# Altium schematic symbol library sharing.SchLib: 20 symbols
Pins are listed as number, name and electrical type; pins without a type are passive.

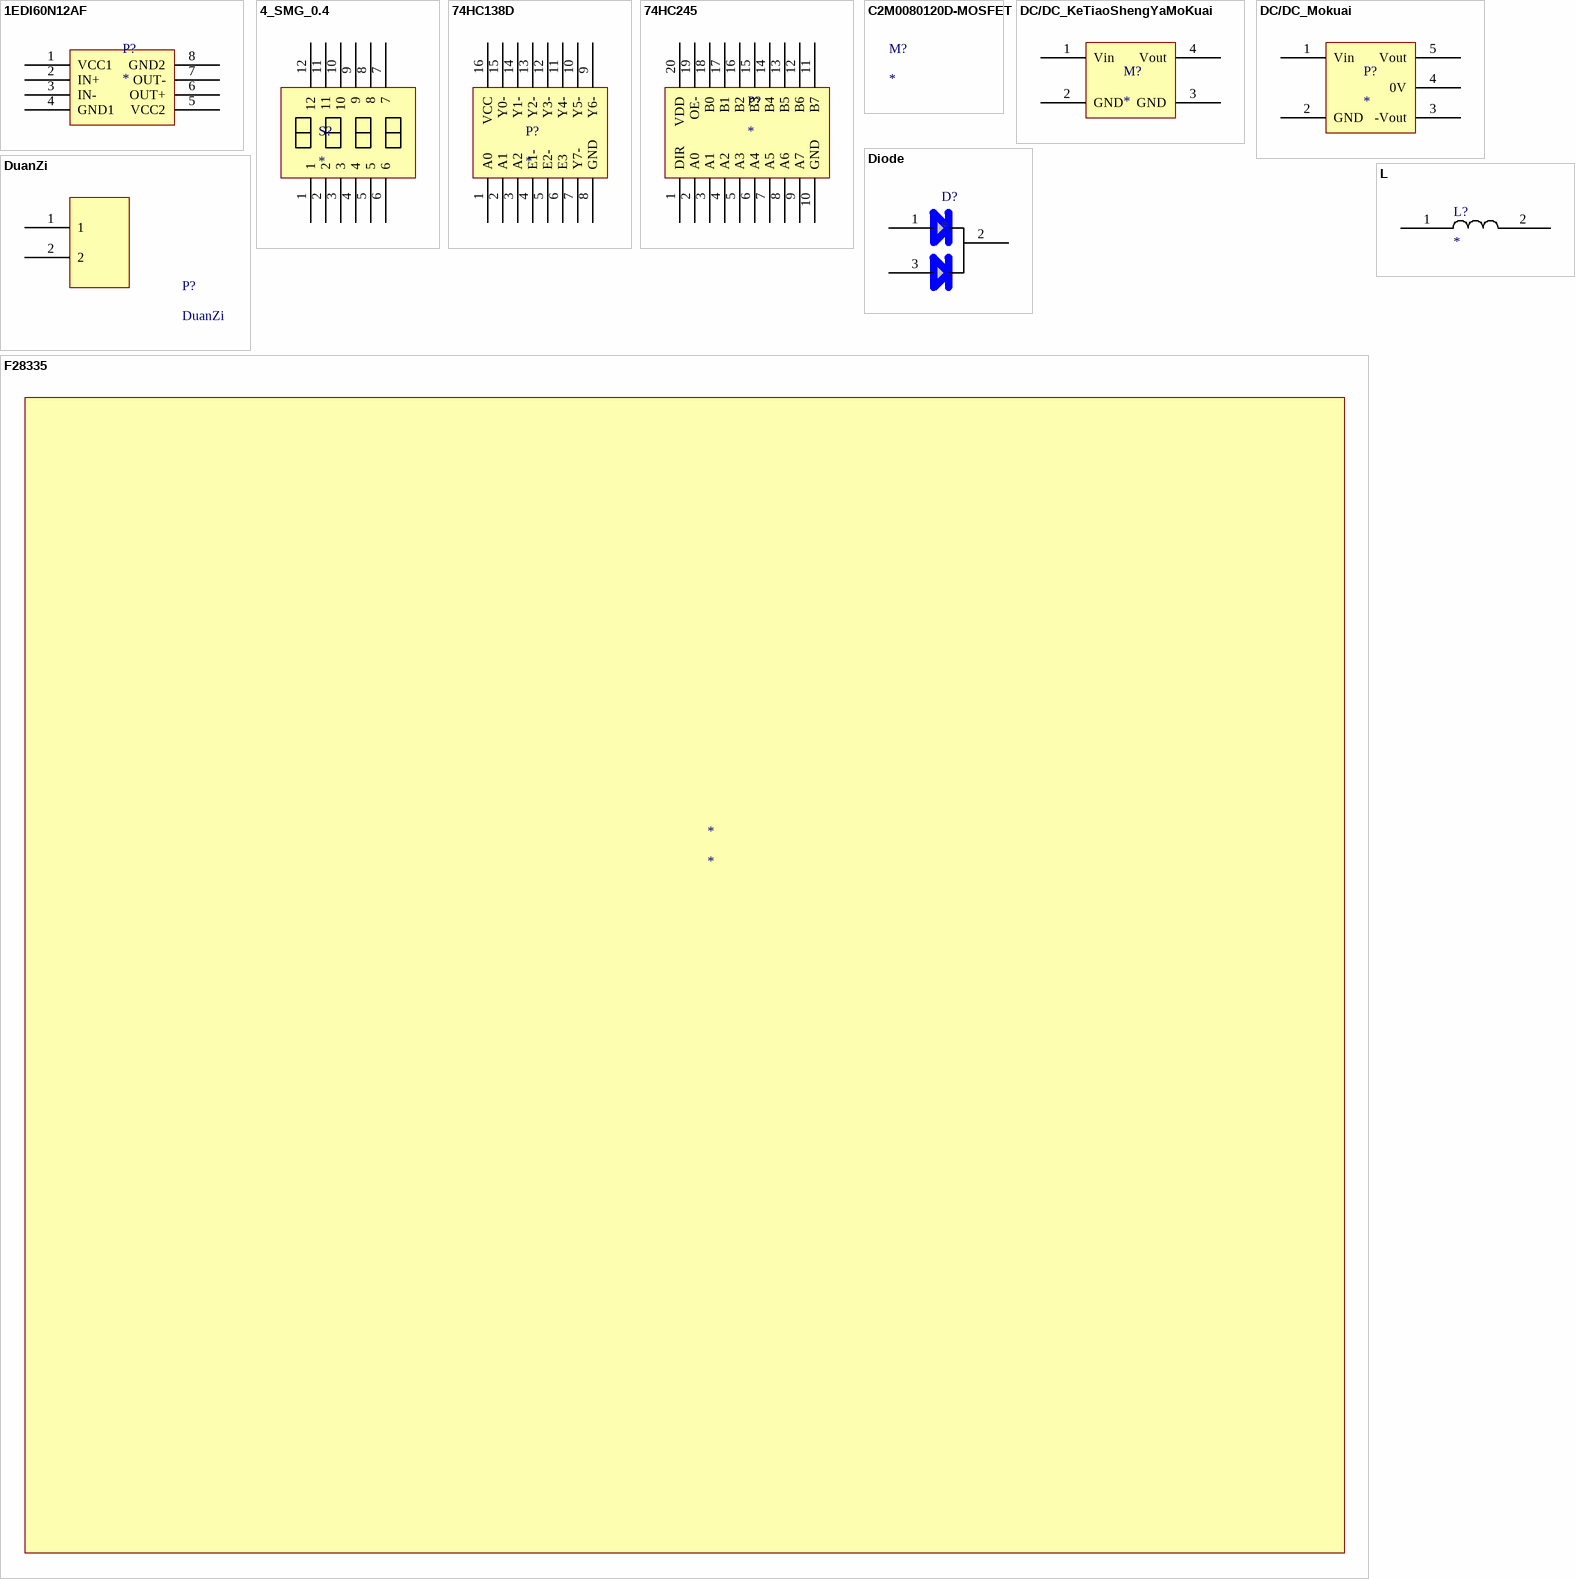
[diagram p0: symbols 1EDI60N12AF to L]

## 1EDI60N12AF
designator P?
footprint sop-8
pins: 1 VCC1, 2 IN+, 3 IN-, 4 GND1, 5 VCC2, 6 OUT+, 7 OUT-, 8 GND2

## 4_SMG_0.4
designator S?
footprint 4_SMG_0.4
pins: 1, 2, 3, 4, 5, 6, 7, 8, 9, 10, 11, 12

## 74HC138D
designator P?
footprint 74HC138
pins: 1 A0, 2 A1, 3 A2, 4 E1-, 5 E2-, 6 E3, 7 Y7-, 8 GND, 9 Y6-, 10 Y5-, 11 Y4-, 12 Y3-, 13 Y2-, 14 Y1-, 15 Y0-, 16 VCC

## 74HC245
designator P?
footprint SOP20_74HC245
pins: 1 DIR, 2 A0, 3 A1, 4 A2, 5 A3, 6 A4, 7 A5, 8 A6, 9 A7, 10 GND, 11 B7, 12 B6, 13 B5, 14 B4, 15 B3, 16 B2, 17 B1, 18 B0, 19 OE-, 20 VDD

## C2M0080120D-MOSFET
designator M?
footprint SiC-MOS

## DC/DC_KeTiaoShengYaMoKuai
designator M?
footprint DC/DC-KeTiaoShengYaMoBan
pins: 1 Vin, 2 GND, 3 GND, 4 Vout

## DC/DC_Mokuai
designator P?
footprint DC/DC_MoKuai
pins: 1 Vin, 2 GND, 3 -Vout, 4 0V, 5 Vout

## Diode
designator D?
footprint SiC-MOS
pins: 1, 2, 3

## DuanZi
designator P?
footprint DuanZi
pins: 1, 2

## F28335
designator *

## L
designator L?
pins: 1, 2

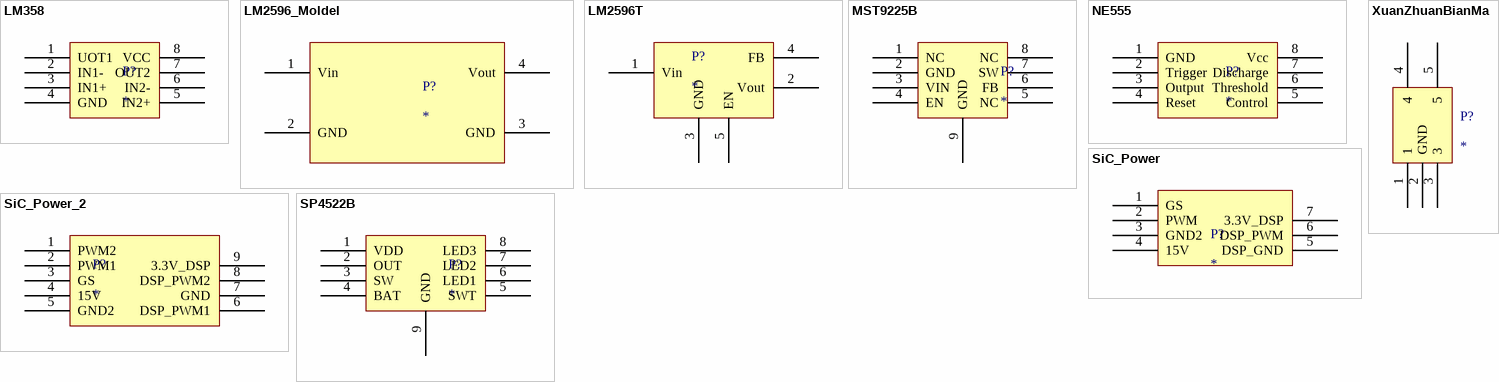
[diagram p1: symbols LM358 to XuanZhuanBianMa]

## LM358
designator P?
footprint DIP8 - duplicate
pins: 1 UOT1, 2 IN1-, 3 IN1+, 4 GND, 5 IN2+, 6 IN2-, 7 OUT2, 8 VCC

## LM2596_Moldel
designator P?
footprint LM2596_Moldel
pins: 1 Vin, 2 GND, 3 GND, 4 Vout

## LM2596T
designator P?
footprint LM2596-ChaJian
pins: 1 Vin, 2 Vout, 3 GND, 4 FB, 5 EN

## MST9225B
designator P?
footprint AP2007
pins: 1 NC, 2 GND, 3 VIN, 4 EN, 5 NC, 6 FB, 7 SW, 8 NC, 9 GND

## NE555
designator P?
footprint DIP8 - duplicate
pins: 1 GND, 2 Trigger, 3 Output, 4 Reset, 5 Control, 6 Threshold, 7 Discharge, 8 Vcc

## SiC_Power
designator P?
footprint SiC_Power
pins: 1 GS, 2 PWM, 3 GND2, 4 15V, 5 DSP_GND, 6 DSP_PWM, 7 3.3V_DSP

## SiC_Power_2
designator P?
footprint SiC_Power_2
pins: 1 PWM2, 2 PWM1, 3 GS, 4 15V, 5 GND2, 6 DSP_PWM1, 7 GND, 8 DSP_PWM2, 9 3.3V_DSP

## SP4522B
designator P?
footprint AP2007
pins: 1 VDD, 2 OUT, 3 SW, 4 BAT, 5 SWT, 6 LED1, 7 LED2, 8 LED3, 9 GND

## XuanZhuanBianMa
designator P?
footprint XuanZhuanBianMa
pins: 1, 2 GND, 3, 4, 5